# EAGLE library part UC_MONITOR_HEADER (library Sedna Components)
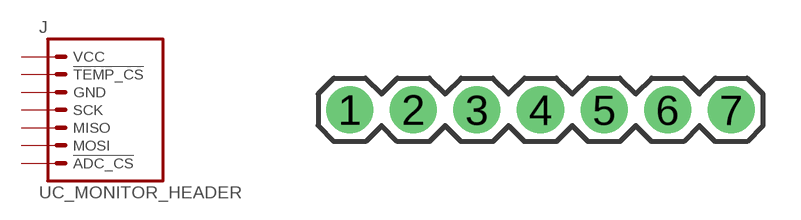
[diagram p4: symbol with the pads of 1X07; footprint 1X07]

Designator prefix J

## UC_MONITOR_HEADER  [1X07]
1  VCC  pwr
2  !TEMP_CS  out
3  GND  out
4  SCK  out
5  MISO  in
6  MOSI  out
7  !ADC_CS  pwr

## Footprint 1X07 (pad centres in mm)
drill 1.016 pad 1.88: 1 0,0; 2 2.54,0; 3 5.08,0; 4 7.62,0; 5 10.16,0; 6 12.7,0; 7 15.24,0